# Altium integrated library TASC.IntLib: 1 symbol
Pins are listed as number, name and electrical type; pins without a type are passive.

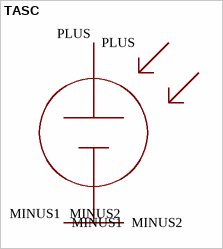
[diagram p0: symbol TASC]

## TASC
designator ?
footprint TASC
pins: MINUS1 (power), MINUS2 (power), PLUS (power)